# Altium schematic symbol library SEMATIK_LIB.SchLib: 632 symbols (part 12 of 21)
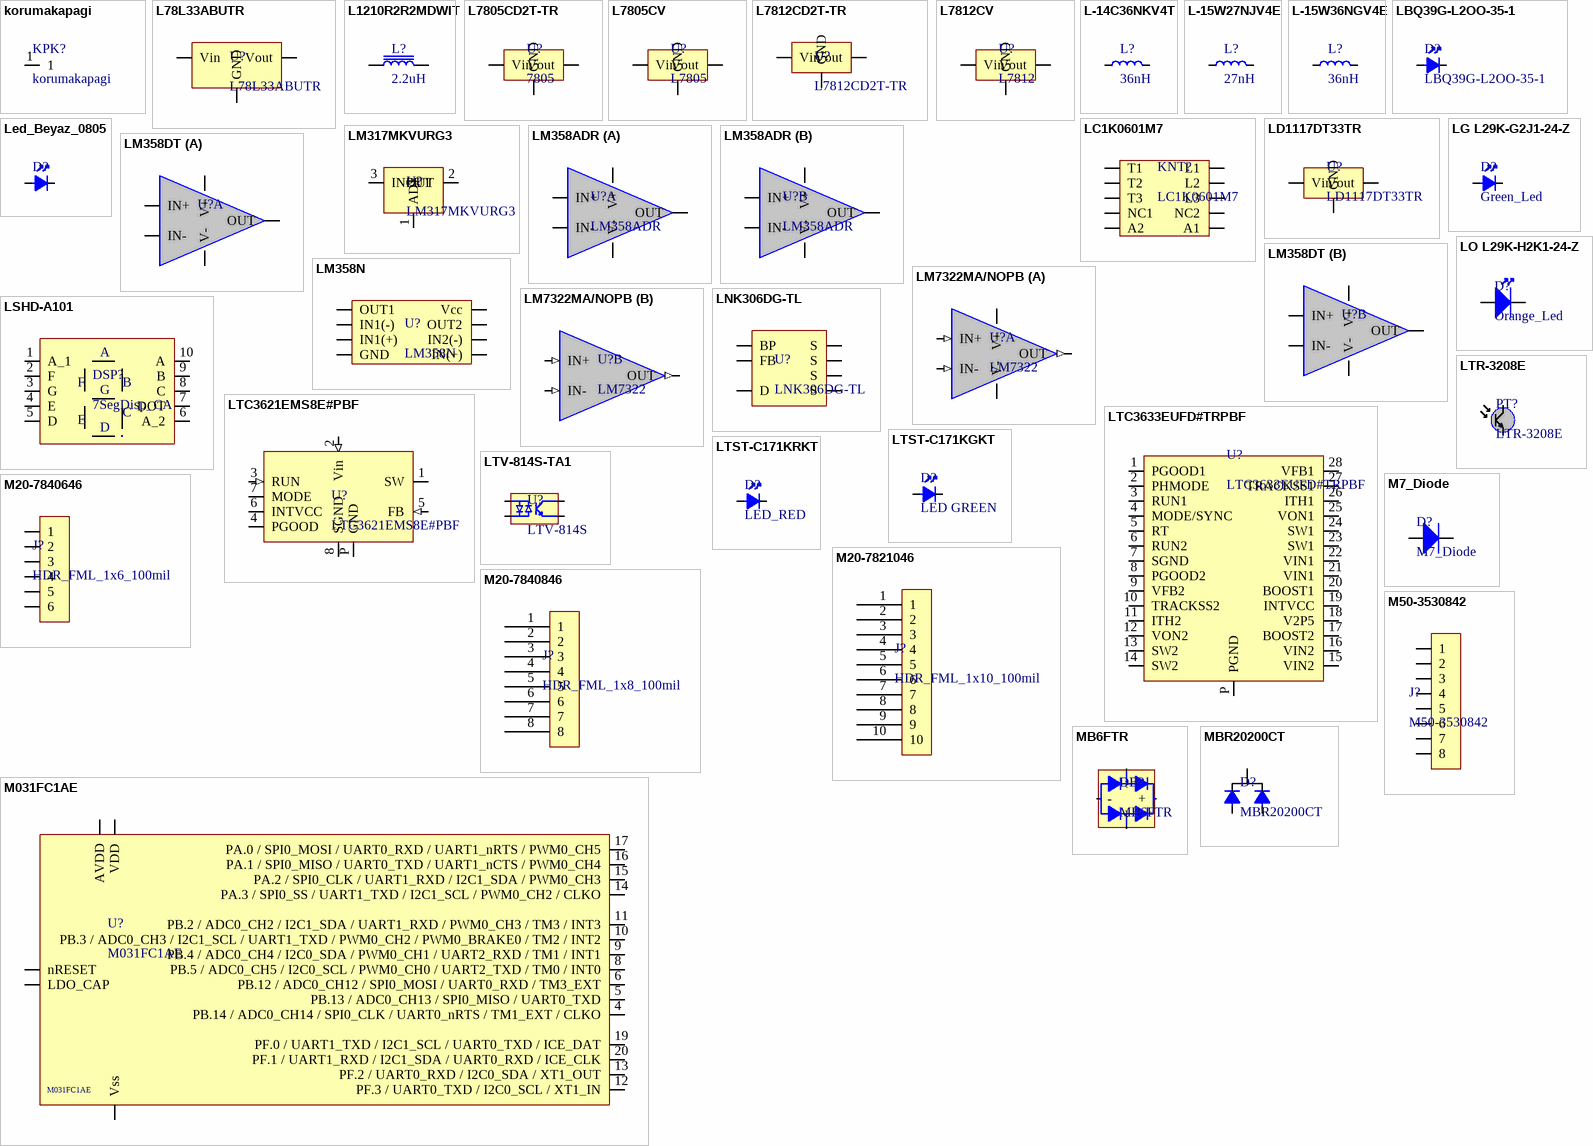
[diagram p27: symbols korumakapagi to MBR20200CT]

## MB6FTR
designator DB?
DIODE BRIDGE RECT 1P 600V 500MA Mbf; Manufacturer: SMC; Supplier 1: Digi-Key; Manufacturer Part Number: MB6FTR; Stock 1: 21477; Pricing 1: 1 = 0,28000, 10 = 0,22700, 100 = 0,09300, 500 = 0,07754, 1000 = 0,05388, 2000 = 0,05008 (USD); RoHS: No; Mount: Surface Mount; Case/Package: SMD/SMT; Min Operating Temperature: -55°C; Max Operating Temperature: 150°C; Packaging: Tape and Reel; Average Rectified Current: 500mA; ComponentLink1URL: http://www.smc-diodes.com/propdf/MB05F-MB10F%20N1456%20REV.B.pdf?src-supplier=Digi-Key; ComponentLink1Description: http://www.smc-diodes.com/propdf/MB05F-MB10F%20N1456%20REV.B.pdf?src-supplier=Digi-Key; Supplier Part Number 1: 1655-1818-1-ND
footprint DIODE_BRIDGE_MBF
pins: 1 ~, 2 ~, 3 +, 4 -

## MBR20200CT
designator D?
DIODE ARRAY SCHOTTKY 200V TO220; Manufacturer: SMC; Element Configuration: Common Cathode; Supplier 1: Digi-Key; Manufacturer Part Number: MBR20200CT; Stock 1: 3483; Pricing 1: 1 = 0,61000, 10 = 0,54000, 25 = 0,50680, 100 = 0,36790, 250 = 0,35480, 500 = 0,30740, 1000 = 0,26162, 2500 = 0,24526, 5000 = 0,22074 (USD); RoHS: No; Mount: Through Hole; Case/Package: TO-220-3; Packaging: Rail/Tube; Max Reverse Voltage (DC): 200V; ComponentLink1URL: http://www.smc-diodes.com/propdf/MBR20200CT(-1)%20MBRB20200CT%20N0763%20REV.A.pdf?src-supplier=Digi-Key; ComponentLink1Description: http://www.smc-diodes.com/propdf/MBR20200CT(-1)%20MBRB20200CT%20N0763%20REV.A.pdf?src-supplier=Digi-Key; Supplier Part Number 1: 1655-1042-ND
footprint TO-220AB
pins: 1 Anot, 2 Katot, 3 Anot

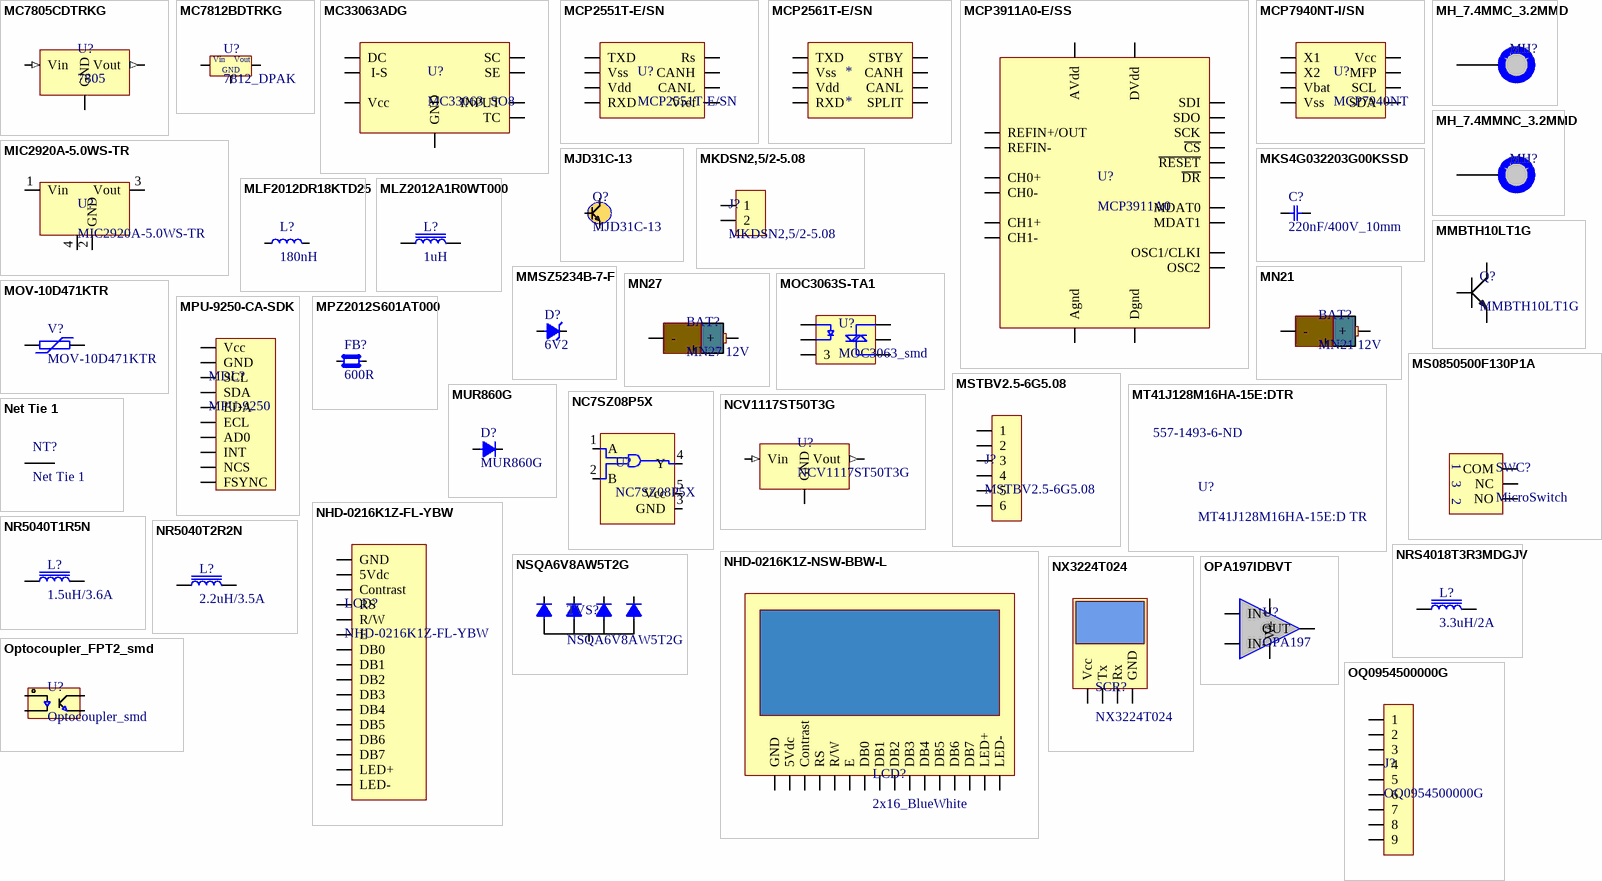
[diagram p9: symbols MC7805CDTRKG to OQ0954500000G]

## MC7805CDTRKG
designator U?, comment 7805
IC REG LINEAR 5V 1A DPAK; Manufacturer: ON Semiconductor; Manufacturer Part Number: MC7805CDTRKG; Power Supply Rejection Ratio (PSRR): 83dB; Output Type: Fixed; Number of Regulators: 1; Polarity: Positive; Quiescent Current: 3.2mA; Max Output Voltage: 5.2V; Max Input Voltage: 35V; Min Input Voltage: 10V; Dropout Voltage: 2V; Output Voltage Accuracy: 4%; Supplier 1: Digi-Key; Stock 1: 4862; Pricing 1: 1 = 0,53000, 10 = 0,45100, 25 = 0,42080, 100 = 0,31250, 250 = 0,26444, 500 = 0,25242, 1000 = 0,18631 (USD); RoHS: Yes; Mount: Surface Mount; Case/Package: DPAK; Number of Pins: 3; Contact Plating: Tin,Matte; Min Operating Temperature: 0°C; Max Operating Temperature: 125°C; Min Output Voltage: 5V; Output Current: 1A; Nominal Output Voltage: 5V; Packaging: Tape and Reel; Package Quantity: 1; Max Output Current: 1A; Number of Outputs: 1; Output Voltage: 5V; Accuracy: 4%; Length: 6.73mm; Width: 6.22mm; Height: 2.38mm; Radiation Hardening: No; REACH SVHC: No SVHC; Lead Free: Lead Free; Halogen Free: Halogen Free; ComponentLink1URL: https://datasheet.ciiva.com/1643/mc7800-d-1643648.pdf?src-supplier=Newark; ComponentLink1Description: https://datasheet.ciiva.com/1643/mc7800-d-1643648.pdf?src-supplier=Newark; ComponentLink2URL: https://datasheet.ciiva.com/2042/mc7800-d-2042320.pdf?src-supplier=Digi-Key; ComponentLink2Description: https://datasheet.ciiva.com/2042/mc7800-d-2042320.pdf?src-supplier=Digi-Key; ComponentLink3URL: https://datasheet.ciiva.com/2042/mc7800-d-2042318.pdf?src-supplier=Digi-Key; ComponentLink3Description: https://datasheet.ciiva.com/2042/mc7800-d-2042318.pdf?src-supplier=Digi-Key; ComponentLink4URL: https://datasheet.ciiva.com/8229/mc7800-d-8229966.pdf?src-supplier=Avnet; ComponentLink4Description: https://datasheet.ciiva.com/8229/mc7800-d-8229966.pdf?src-supplier=Avnet; ComponentLink5URL: https://datasheet.ciiva.com/8234/mc7800-d-8234046.pdf?src-supplier=Avnet; ComponentLink5Description: https://datasheet.ciiva.com/8234/mc7800-d-8234046.pdf?src-supplier=Avnet; ComponentLink6URL: https://datasheet.ciiva.com/2042/mc7800-d-2042319.pdf?src-supplier=Digi-Key; ComponentLink6Description: https://datasheet.ciiva.com/2042/mc7800-d-2042319.pdf?src-supplier=Digi-Key; Supplier Part Number 1: MC7805CDTRKGOSDKR-ND
footprint DPAK
pins: 1 Vin (in), 2 GND, 3 Vout (out)

## MC7812BDTRKG
designator U?, comment 7812_DPAK
IC REG LDO 12V 1A DPAK; Manufacturer: ON Semiconductor; Manufacturer Part Number: MC7812BDTRKG; Max Input Voltage: 35V; Min Input Voltage: 19V; Number of Outputs: 1; Dropout Voltage: 2V; Polarity: Positive; Quiescent Current: 8mA; Accuracy: 4%; Power Supply Rejection Ratio (PSRR): 60dB; Output Type: Fixed; Supplier 1: Digi-Key; Stock 1: 14964; Pricing 1: 1=0.71, 10=0.624, 100=0.4781, 500=0.37796, 1000=0.30237 (USD); Mount: Surface Mount; Case/Package: DPAK; Number of Pins: 3; Contact Plating: Matte,Tin; Min Operating Temperature: -40°C; Max Operating Temperature: 125°C; Output Voltage: 12V; Output Current: 1A; Packaging: Tape and Reel; Package Quantity: 1; Max Output Current: 1A; Nominal Output Voltage: 12V; Number of Regulators: 1; Min Output Voltage: 12V; Output Voltage Accuracy: 4%; Radiation Hardening: No; REACH SVHC: No SVHC; Lead Free: Lead Free; Halogen Free: Halogen Free; ComponentLink1URL: http://www.farnell.com/datasheets/1726421.pdf?src-supplier=Element14; ComponentLink1Description: http://www.farnell.com/datasheets/1726421.pdf?src-supplier=Element14; ComponentLink2URL: http://www.onsemi.com/pub/Collateral/MC7800-D.PDF?src-supplier=Digi-Key; ComponentLink2Description: http://www.onsemi.com/pub/Collateral/MC7800-D.PDF?src-supplier=Digi-Key; ComponentLink3URL: http://www.farnell.com/datasheets/87758.pdf?src-supplier=Element14; ComponentLink3Description: http://www.farnell.com/datasheets/87758.pdf?src-supplier=Element14; ComponentLink4URL: http://www.onsemi.com/pub/Collateral/MC7800-D.PDF?src-supplier=Avnet; ComponentLink4Description: http://www.onsemi.com/pub/Collateral/MC7800-D.PDF?src-supplier=Avnet; Supplier Part Number 1: MC7812BDTRKGOSDKR-ND
footprint DPAK
pins: 1 Vin, 2 GND, 3 Vout

## MC33063ADG
designator U?, comment MC33063_SO8
MC33063ADG; Buck/Boost Converter 1.5A; 1.25 - 40 V; 8-Pin SOIC; Manufacturer: ON Semiconductor; Supplier 1: Allied; Manufacturer Part Number: MC33063ADG; RoHS: No; Stock 1: 775; Pricing 1: 1=0.7000, 10=0.6700, 50=0.6400, 100=0.6000, 250=0.5700 (USD); ComponentLink1URL: https://www.alliedelec.com/m/d/601cbfd53bfed888ce69fc7cc840d423.pdf; ComponentLink1Description: https://www.alliedelec.com/m/d/601cbfd53bfed888ce69fc7cc840d423.pdf; ComponentLink2URL: https://www.alliedelec.com/on-semiconductor-mc33063adg/70339981/; ComponentLink2Description: https://www.alliedelec.com/on-semiconductor-mc33063adg/70339981/; Supplier Part Number 1: 70339981
footprint SOP8
pins: 1 SC, 2 SE, 3 TC, 4 GND, 5 INPUT, 6 Vcc, 7  I-S, 8 DC

## MCP2551T-E/SN
designator U?
IC TRANSCEIVER HALF 1/1 8SOIC; Manufacturer: Microchip; Data Rate: 1Mbps; Min Supply Voltage: 4.5V; Max Supply Voltage: 5.5V; Operating Supply Voltage: 5V; Nominal Supply Current: 75mA; Interface: CAN; Number of Transceivers: 1; Output Current: 200mA; Simplex/Duplex: Half Duplex; Receiver Hysteresis: 200mV; Supplier 1: Digi-Key; Manufacturer Part Number: MCP2551T-E/SN; RoHS: Yes; Category: Interface ICs; Stock 1: 71825; Pricing 1: 1=1,59000, 25=1,45520 (USD); Mount: Surface Mount; Case/Package: SOIC; Number of Pins: 8; Contact Plating: Tin,Matte; Min Operating Temperature: -40°C; Max Operating Temperature: 125°C; Packaging: Tape and Reel; Package Quantity: 3300; Max Supply Current: 75mA; Series: -; Supply Current: 75mA; Number of Functions: 1; Supply Voltage-Nom: 5.5V; Length: 4.9mm; Width: 3.9mm; Height: 1.5mm; Radiation Hardening: No; Lead Free: Lead Free; RoHS Compliant: Yes; ComponentLink1URL: https://datasheet.ciiva.com/1604/657417-1604797.pdf?src-supplier=Newark; ComponentLink1Description: https://datasheet.ciiva.com/1604/657417-1604797.pdf?src-supplier=Newark; ComponentLink2URL: https://datasheet.ciiva.com/16983/70048433-16983254.pdf?src-supplier=Allied+Electronics; ComponentLink2Description: https://datasheet.ciiva.com/16983/70048433-16983254.pdf?src-supplier=Allied+Electronics; ComponentLink3URL: https://datasheet.ciiva.com/16290/filehandler-aspxddocname-en011797-16290269.pdf?src-supplier=Future+Electronics; ComponentLink3Description: https://datasheet.ciiva.com/16290/filehandler-aspxddocname-en011797-16290269.pdf?src-supplier=Future+Electronics; ComponentLink4URL: https://datasheet.ciiva.com/1767/21667f-1767467.pdf?src-supplier=Digi-Key; ComponentLink4Description: https://datasheet.ciiva.com/1767/21667f-1767467.pdf?src-supplier=Digi-Key; ComponentLink5URL: https://datasheet.ciiva.com/29718/filehandler-aspxddocname-en011797-29718437.pdf?src-supplier=Digi-Key; ComponentLink5Description: https://datasheet.ciiva.com/29718/filehandler-aspxddocname-en011797-29718437.pdf?src-supplier=Digi-Key; ComponentLink6URL: https://datasheet.ciiva.com/29718/filehandler-aspxddocname-en011797-29718438.pdf?src-supplier=Digi-Key; ComponentLink6Description: https://datasheet.ciiva.com/29718/filehandler-aspxddocname-en011797-29718438.pdf?src-supplier=Digi-Key; Supplier Part Number 1: MCP2551T-E/SNDKR-ND
footprint SOP8
pins: 1 TXD, 2 Vss, 3 Vdd, 4 RXD, 5 Vref, 6 CANL, 7 CANH, 8 Rs

## MCP2561T-E/SN
designator *
MCP2561 Series 4.5 to 5.5 V Surface Mount High Speed CAN Transceiver - SOIC-8; Manufacturer: Microchip; Manufacturer Part Number: MCP2561T-E/SN; Data Rate: 1Mbps; Min Supply Voltage: 4.5V; Max Supply Voltage: 5.5V; Propagation Delay: 125ns; Nominal Supply Current: 45mA; Number of Transceivers: 1; Receiver Hysteresis: 200mV; Supplier 1: Digi-Key; RoHS: Yes; Category: Interface ICs; Mount: Surface Mount; Case/Package: SOIC; Number of Pins: 8; Min Operating Temperature: -40°C; Max Operating Temperature: 125°C; Packaging: Tape and Reel; Package Quantity: 3300; Turn-On Delay Time: 125ns; Radiation Hardening: No; Lead Free: Lead Free; RoHS Compliant: Yes; ComponentLink1URL: https://datasheet.ciiva.com/18624/25167b-18624822.pdf?src-supplier=Digi-Key; ComponentLink1Description: https://datasheet.ciiva.com/18624/25167b-18624822.pdf?src-supplier=Digi-Key; Supplier Part Number 1: MCP2561T-E/SN-ND
footprint SOP8
pins: 1 TXD, 2 Vss, 3 Vdd, 4 RXD, 5 SPLIT, 6 CANL, 7 CANH, 8 STBY

## MCP3911A0-E/SS
designator U?, comment MCP3911A0
IC AFE 2 CHAN 24BIT 20SSOP; Manufacturer: Microchip; Manufacturer Part Number: MCP3911A0-E/SS; Conversion Rate: 125ksps; Data Rate: 125kbps; Interface: SPI, Serial; Max Power Dissipation: 8.9mW; Max Supply Voltage: 3.6V; Min Supply Voltage: 2.7V; Number of A/D Converters: 2; Number of Bits: 24; Operating Supply Current: 4.4mA; Operating Supply Voltage: 3.3V; Reference Voltage: 1.2V; Resolution: 3B; Signal to Noise Ratio (SNR): 95dB; Supplier: Farnell; Supplier Part Number: 2113275; RoHS: Compliant; Category: Analog Front End (AFE); Stock: 260; Pricing: 1=2,4, 25=1,99, 100=1,8, 250=1,76 (EUR); Projected EOL Date: 2039-12-22; Case/Package: SSOP; Contact Plating: Tin; Country of Assembly: Philippines, Thailand; Country of Fabrication: United States of America; Country of Origin: Philippines, Thailand; Export Control Classification Number (ECCN) Code: EAR99; Height: 1.85mm; Harmonized Tariff Schedule (HTS) Code: 8542.33.0001; Introduction Date: 2011-12-22; Lead Free: Lead Free; Length: 7.5mm; Lifecycle Status: Production; Max Operating Temperature: 125°C; Min Operating Temperature: -40°C; Number of Channels: 2; Number of Converters: 2; Pins: 20; Packaging: Rail/Tube; Radiation Hardening: No; REACH SVHC: No; Sampling Rate: 125ksps; Schedule B: 8542330000, 8542330000|8542330000, 8542330000|8542330000|8542330000, 8542330000|8542330000|8542330000|8542330000; Type: General Purpose; Width: 5.6mm; ComponentLink1URL: https://datasheet.octopart.com:443/MCP3911A0-E-SS-Microchip-datasheet-38883559.pdf?src-supplier=SHENGYU+ELECTRONICS; ComponentLink1Description: https://datasheet.octopart.com:443/MCP3911A0-E-SS-Microchip-datasheet-38883559.pdf?src-supplier=SHENGYU+ELECTRONICS; ComponentLink2URL: https://datasheet.octopart.com:443/MCP3911A0-E/SS-Microchip-datasheet-11053292.pdf?src-supplier=LKR; ComponentLink2Description: https://datasheet.octopart.com:443/MCP3911A0-E/SS-Microchip-datasheet-11053292.pdf?src-supplier=LKR; ComponentLink3URL: https://datasheet.octopart.com:443/MCP3911A0-E-SS-Microchip-datasheet-147334620.pdf?src-supplier=Microchip; ComponentLink3Description: https://datasheet.octopart.com:443/MCP3911A0-E-SS-Microchip-datasheet-147334620.pdf?src-supplier=Microchip; ComponentLink4URL: http://sigma.octopart.com:80/188450172/materials_sheet/Microchip-MCP3911A0-E-SS.pdf?src-supplier=Compliance+Statements; ComponentLink4Description: http://sigma.octopart.com:80/188450172/materials_sheet/Microchip-MCP3911A0-E-SS.pdf?src-supplier=Compliance+Statements; ComponentLink5URL: http://sigma.octopart.com:80/conflict_mineral_statement/Microchip-company-68.pdf?src-supplier=Compliance+Statements; ComponentLink5Description: http://sigma.octopart.com:80/conflict_mineral_statement/Microchip-company-68.pdf?src-supplier=Compliance+Statements; ComponentLink6URL: http://sigma.octopart.com:80/conflict_mineral_statement/Microchip-company-69.pdf?src-supplier=Compliance+Statements; ComponentLink6Description: http://sigma.octopart.com:80/conflict_mineral_statement/Microchip-company-69.pdf?src-supplier=Compliance+Statements; ComponentLink7URL: http://sigma.octopart.com:80/reach_statement/Microchip-company-70.pdf?src-supplier=Compliance+Statements; ComponentLink7Description: http://sigma.octopart.com:80/reach_statement/Microchip-company-70.pdf?src-supplier=Compliance+Statements; ComponentLink8URL: http://sigma.octopart.com:80/rohs_statement/Microchip-company-71.pdf?src-supplier=Compliance+Statements; ComponentLink8Description: http://sigma.octopart.com:80/rohs_statement/Microchip-company-71.pdf?src-supplier=Compliance+Statements
footprint SSOP20
pins: 1 ~{RESET}, 2 DVdd, 3 AVdd, 4 CH0+, 5 CH0-, 6 CH1-, 7 CH1+, 8 Agnd, 9 REFIN+/OUT, 10 REFIN-, 11 Dgnd, 12 MDAT1, 13 MDAT0, 14 ~{DR}, 15 OSC1/CLKI, 16 OSC2, 17 ~{CS}, 18 SCK, 19 SDO, 20 SDI

## MCP7940NT-I/SN
designator U?, comment MCP7940NT
IC RTC CLK/CALENDAR I2C 8-SOIC; Manufacturer: Microchip; Manufacturer Part Number: MCP7940NT-I/SN; Max Supply Voltage: 5.5V; Min Supply Voltage: 1.8V; Memory Size: 64B; Interface: I2C,Serial,2-Wire; Logic Function: Clock; Time Format: HH:MM:SS; Date Format: YY-MM-DD-dd; Supplier 1: Digi-Key; Stock 1: 8006; Pricing 1: 1 = 0,74000, 25 = 0,68000, 100 = 0,65000 (USD); RoHS: Yes; Mount: Surface Mount; Case/Package: SOIC; Number of Pins: 8; Min Operating Temperature: -40°C; Max Operating Temperature: 85°C; Packaging: Tape and Reel; Package Quantity: 3300; Radiation Hardening: No; ComponentLink1URL: https://datasheet.ciiva.com/1241/25010e-1241400.pdf?src-supplier=Digi-Key; ComponentLink1Description: https://datasheet.ciiva.com/1241/25010e-1241400.pdf?src-supplier=Digi-Key; ComponentLink2URL: https://datasheet.ciiva.com/8145/25010a-8145519.pdf?src-supplier=Avnet; ComponentLink2Description: https://datasheet.ciiva.com/8145/25010a-8145519.pdf?src-supplier=Avnet; Supplier Part Number 1: MCP7940NT-I/SNCT-ND
footprint SOP8
pins: 1 X1, 2 X2, 3 Vbat, 4 Vss, 5 SDA, 6 SCL, 7 MFP, 8 Vcc

## MH_7.4MMC_3.2MMD
designator MH?  (value not drawn)  (no BOM)
Mounting Hole 7.4mm Diameter, 3.2mm Drill
footprint MH_7.4MMC_3.2MMD
pins: 1

## MH_7.4MMNC_3.2MMD
designator MH?, comment MH_7.4NC_3.2MMD  (value not drawn)  (no BOM)
Mounting Hole 7.4 Diameter(Non copper)  3.2 Drill NPTH
footprint MH_7.4MMNC_3.2MMD
pins: 1

## MIC2920A-5.0WS-TR
designator U?
IC REG LINEAR 5V 400MA SOT223; Manufacturer: Microchip Technology; Output Configuration: Positive; Output Type: Fixed; Voltage - Input (Max): 26V; Voltage Dropout (Max): 0.75V @ 400mA; Protection Features: Load Dump, Over Current, Reverse Polarity; Supplier 1: Digi-Key; Manufacturer Part Number: MIC2920A-5.0WS-TR; RoHS: RoHS Compliant; Category: Integrated Circuits (ICs); Stock 1: 5486; Pricing 1: 1=1.36, 25=1.1332, 100=1.03 (USD); Packaging: Cut Tape (CT); Part Status: Active; Voltage - Output (Min/Fixed): 5V; Voltage - Output (Max): -; Current - Output: 400mA; PSRR: -; Control Features: -; Operating Temperature: -40°C ~ 125°C; Mounting Type: Surface Mount; Package / Case: TO-261-4, TO-261AA; Supplier Device Package: SOT-223; Base Part Number: MIC2920A-5.0; ComponentLink1URL: http://www.microchip.com/mymicrochip/filehandler.aspx?ddocname=en580793; ComponentLink1Description: http://www.microchip.com/mymicrochip/filehandler.aspx?ddocname=en580793; Supplier Part Number 1: 576-1117-1-ND
footprint SOT-223
pins: 1 Vin, 2 GND, 3 Vout, 4

## MJD31C-13
designator Q?
TRANS NPN 100V 3A DPAK; Manufacturer: Diodes Zetex; Transition Frequency: 3MHz; Emitter Base Voltage (VEBO): 6V; Collector Emitter Saturation Voltage: 1.2V; Number of Elements: 1; Power Dissipation: 1.5W; Max Power Dissipation: 1.56W; Element Configuration: Single; hFE Min: 25; Supplier 1: Digi-Key; Manufacturer Part Number: MJD31C-13; Stock 1: 14695; Pricing 1: 1 = 0,47000, 10 = 0,40100, 25 = 0,37400, 100 = 0,27790, 500 = 0,21700, 1000 = 0,17639 (USD); RoHS: Yes; Mount: Surface Mount; Case/Package: DPAK; Number of Pins: 3; Weight: 0.012346oz; Min Operating Temperature: -55°C; Max Operating Temperature: 150°C; Max Collector Current: 3A; Collector Emitter Breakdown Voltage: 100V; Max Breakdown Voltage: 100V; Polarity: NPN; Collector Base Voltage (VCBO): 100V; Continuous Collector Current: 3A; Package Quantity: 2500; Packaging: Tape and Reel; Collector Emitter Voltage (VCEO): 100V; Frequency: 3MHz; Gain Bandwidth Product: 3MHz; Max Frequency: 3MHz; Length: 6.8mm; Width: 6.2mm; Height: 2.4mm; Radiation Hardening: No; REACH SVHC: No SVHC; Lead Free: Lead Free; ComponentLink1URL: https://datasheet.ciiva.com/6360/ds31625-6360177.pdf?src-supplier=Digi-Key; ComponentLink1Description: https://datasheet.ciiva.com/6360/ds31625-6360177.pdf?src-supplier=Digi-Key; ComponentLink2URL: https://datasheet.ciiva.com/16462/ds31625-16462219.pdf?src-supplier=Future+Electronics; ComponentLink2Description: https://datasheet.ciiva.com/16462/ds31625-16462219.pdf?src-supplier=Future+Electronics; ComponentLink3URL: https://datasheet.ciiva.com/16285/ds31625-16285775.pdf?src-supplier=Mouser; ComponentLink3Description: https://datasheet.ciiva.com/16285/ds31625-16285775.pdf?src-supplier=Mouser; Supplier Part Number 1: MJD31C-13DICT-ND
footprint DPAK
pins: 1 Base, 2 Collector, 3 Emiter

## MKDSN2,5/2-5.08
designator J?
TERM BLOCK 2 POS 5.08MM SOLDER ST THRU-HOLDER; Manufacturer 1: Phoenix Contact; Max Current Rating: 16A; Max Supply Voltage: 250V; Number of Poles: 2; Voltage Rating: 400V; Number of Levels: 1; Current: 10A; Voltage: 300V; Gender: Male; Connector Type: Screw; Wire Gauge (Max): 30AWG; Wire Gauge (Min): 12AWG; Approvals: UL,VDE,cULus,CB; Supplier 1: Digi-Key; Manufacturer Part Number 1: MKDSN2,5/2-5.08; Stock 1: 2023; Pricing 1: 1=1.15, 10=1.099, 50=1.051, 100=1.0224, 250=0.95552, 500=0.87906, 1000=0.81218, 2500=0.77396, 5000=0.72618 (USD); Mount: Through Hole; Number of Pins: 2; Weight: 0.114993oz; Color: Green; Material: Polyamide; Housing Color: Green; Housing Material: Polyamide; Contact Material: Tin; Number of Rows: 1; Packaging: Bulk; Package Quantity: 50; Current Rating: 16A; Number of Positions Per Level: 2; Termination: Screw; Number of Positions: 2; Number of Contacts: 2; Number of Circuits: 2; Orientation: Straight; Length: 11.6mm; Height: 10.16mm; Width: 9.5mm; Pitch: 5.08mm; Depth: 9.5mm; Lead Free: Lead Free; Flammability Rating: UL94 V-0; ComponentLink1URL: http://www.farnell.com/datasheets/2325421.pdf?src-supplier=Farnell; ComponentLink1Description: http://www.farnell.com/datasheets/2325421.pdf?src-supplier=Farnell; ComponentLink2URL: https://media.digikey.com/PDF/Data%20Sheets/Phoenix%20Contact%20PDFs/1888687.pdf?src-supplier=Digi-Key; ComponentLink2Description: https://media.digikey.com/PDF/Data%20Sheets/Phoenix%20Contact%20PDFs/1888687.pdf?src-supplier=Digi-Key; ComponentLink3URL: https://produktinfo.conrad.com/datenblaetter/750000-774999/774087-da-01-en-PRINTKLEMME_1888687_250_ST.pdf?src-supplier=Conrad; ComponentLink3Description: https://produktinfo.conrad.com/datenblaetter/750000-774999/774087-da-01-en-PRINTKLEMME_1888687_250_ST.pdf?src-supplier=Conrad; Supplier Part Number 1: 277-5893-ND
footprint SOCKET_5.08_1X2_PCB_NO2
pins: 1, 2

## MKS4G032203G00KSSD
designator C?, comment 220nF/400V_10mm
CAP FILM nF 220 200Vac 10% 10mm; Manufacturer: WIMA; Manufacturer Part Number: MKS4G032203G00KSSD; Capacitance: 220nF; Dielectric: PET; Lead Diameter: 0.6mm; Supplier 1: Digi-Key; Stock 1: 207; Pricing 1: 1=0.57, 10=0.406, 100=0.2672, 500=0.19792, 1000=0.16823, 2500=0.15834, 5000=0.14844 (USD); Case/Package: Radial; Min Operating Temperature: -55°C; Max Operating Temperature: 100°C; Tolerance: 10%; Packaging: Bulk; Length: 13mm; Depth: 6mm; Lead Pitch: 10mm; Supplier Part Number 1: 1928-1719-ND
footprint Radial_10mm_7.2x3.5mm
pins: 1, 2

## MLF2012DR18KTD25
designator L?, comment 180nH
FIXED IND nH 180 300MA 250MOHM SM; Manufacturer: TDK; Manufacturer Part Number: MLF2012DR18KTD25; Core Material: Ferrite; Tolerance: 10%; Shielding: Shielded; DC Resistance (DCR): 250mR; Self Resonant Frequency: 280MHz; Test Frequency: 25MHz; Q Factor: 20; Supplier 1: Digi-Key; RoHS: Yes; Category: Fixed Inductors; Stock 1: 4804; Pricing 1: 1=0,27000, 10=0,24300, 25=0,21240, 50=0,18220, 100=0,16700, 250=0,15180, 500=0,14270, 1000=0,10930 (USD); Mount: Surface Mount; Case/Package: 0805; Case Code (Metric): 2012; Case Code (Imperial): 0805; Weight: 0.000194oz; Min Operating Temperature: -55°C; Max Operating Temperature: 125°C; Package Quantity: 4000; Packaging: Tape and Reel; Current Rating: 300mA; Inductance: 180nH; Termination: SMD/SMT; Max DC Current: 300mA; Length: 0.079inch; Width: 0.049inch; Height: 0.85mm; Height - Seated (Max): 0.041inch; Ratings: AEC-Q200; RoHS Compliant: Yes; ComponentLink1URL: http://www.mouser.com/ds/2/400/nductor_commercial_standard_mlf2012_en-936986.pdf?src-supplier=Mouser; ComponentLink1Description: http://www.mouser.com/ds/2/400/nductor_commercial_standard_mlf2012_en-936986.pdf?src-supplier=Mouser; ComponentLink2URL: http://product.tdk.com/inductor/ind/en/documents/inductor_automotive_standard_mlf_en.pdf?src-supplier=Digi-Key; ComponentLink2Description: http://product.tdk.com/inductor/ind/en/documents/inductor_automotive_standard_mlf_en.pdf?src-supplier=Digi-Key; ComponentLink3URL: https://product.tdk.com/info/en/catalog/datasheets/inductor_automotive_standard_mlf2012_en.pdf?src-supplier=Digi-Key; ComponentLink3Description: https://product.tdk.com/info/en/catalog/datasheets/inductor_automotive_standard_mlf2012_en.pdf?src-supplier=Digi-Key; Supplier Part Number 1: 445-16992-1-ND
footprint FERRITEBEAD_0805
pins: 1, 2

## MLZ2012A1R0WT000
designator L?, comment 1uH
FIXED IND uH 1 900MA 100 MOHM 0805 SMD; Manufacturer: TDK; Manufacturer Part Number: MLZ2012A1R0WT000; Core Material: Ferrite; Tolerance: 20%; Saturation Current: 280mA; Shielding: Shielded; DC Resistance (DCR): 130mR; Self Resonant Frequency: 160MHz; Test Frequency: 10MHz; Supplier 1: Digi-Key; Stock 1: 9153; Pricing 1: 1 = 0,13000, 10 = 0,11300, 25 = 0,10000, 50 = 0,08500, 100 = 0,07500, 250 = 0,06876, 500 = 0,06250, 1000 = 0,05250 (USD); RoHS: Yes; Mount: Surface Mount; Case/Package: 0805; Case Code (Imperial): 0805; Case Code (Metric): 2012; Min Operating Temperature: -55°C; Max Operating Temperature: 125°C; Package Quantity: 1; Packaging: Cut Tape; Current Rating: 900mA; Inductance: 1uH; Length: 0.079inch; Width: 0.049inch; Height - Seated (Max): 0.041inch; ComponentLink1URL: https://datasheet.ciiva.com/29698/inductor-commercial-decoupling-mlz-en-29698927.pdf?src-supplier=Digi-Key; ComponentLink1Description: https://datasheet.ciiva.com/29698/inductor-commercial-decoupling-mlz-en-29698927.pdf?src-supplier=Digi-Key; Supplier Part Number 1: 445-6391-1-ND
footprint Cap_0805
pins: 1, 2

## MMBTH10LT1G
designator Q?
RF TRANS NPN 25V 650MHZ SOT23-3; Manufacturer: ON Semiconductor; Max Power Dissipation: 225mW; Collector Base Voltage (VCBO): 30V; Emitter Base Voltage (VEBO): 3V; Collector Emitter Saturation Voltage: 500mV; Max Collector Current: 100nA; Element Configuration: Single; hFE Min: 60; Number of Elements: 1; Power Dissipation: 300mW; Current Rating: 4mA; Supplier 1: Digi-Key; Manufacturer Part Number: MMBTH10LT1G; Stock 1: 3413; Pricing 1: 1 = 0,22000, 10 = 0,18000, 25 = 0,15040, 100 = 0,09520, 250 = 0,07348, 500 = 0,06262, 1000 = 0,04259 (USD); RoHS: Yes; Case/Package: SOT-23-3; Number of Pins: 3; Weight: 0.01lb; Contact Plating: Tin,Matte; Min Operating Temperature: -55°C; Max Operating Temperature: 150°C; Package Quantity: 1; Packaging: Tape and Reel; Collector Emitter Voltage (VCEO): 25V; Transition Frequency: 650MHz; Polarity: NPN; Collector Emitter Breakdown Voltage: 25V; Max Frequency: 650MHz; Frequency: 650MHz; Max Breakdown Voltage: 25V; Termination: SMD/SMT; Gain Bandwidth Product: 650MHz; Voltage Rating (DC): 25V; Length: 3.04mm; Width: 1.4mm; Height: 1.01mm; Radiation Hardening: No; Lead Free: Lead Free; Halogen Free: Halogen Free; REACH SVHC: No SVHC; ComponentLink1URL: https://datasheet.ciiva.com/965/mmbth10lt1-d-965280.pdf?src-supplier=Digi-Key; ComponentLink1Description: https://datasheet.ciiva.com/965/mmbth10lt1-d-965280.pdf?src-supplier=Digi-Key; ComponentLink2URL: https://datasheet.ciiva.com/11197/mmbth10lt1-d-11197425.pdf?src-supplier=Avnet; ComponentLink2Description: https://datasheet.ciiva.com/11197/mmbth10lt1-d-11197425.pdf?src-supplier=Avnet; ComponentLink3URL: https://datasheet.ciiva.com/4722/mmbth10lt1-d-111412-4722870.pdf?src-supplier=Mouser; ComponentLink3Description: https://datasheet.ciiva.com/4722/mmbth10lt1-d-111412-4722870.pdf?src-supplier=Mouser; ComponentLink4URL: https://datasheet.ciiva.com/15138/getdatasheetpartid-38929-15138652.pdf?src-supplier=Verical; ComponentLink4Description: https://datasheet.ciiva.com/15138/getdatasheetpartid-38929-15138652.pdf?src-supplier=Verical; ComponentLink5URL: https://datasheet.ciiva.com/30480/0900766b81276aea-30480447.pdf?src-supplier=RSComponents; ComponentLink5Description: https://datasheet.ciiva.com/30480/0900766b81276aea-30480447.pdf?src-supplier=RSComponents; ComponentLink6URL: https://datasheet.ciiva.com/7972/mmbth10lt1-d-7972071.pdf?src-supplier=Element14; ComponentLink6Description: https://datasheet.ciiva.com/7972/mmbth10lt1-d-7972071.pdf?src-supplier=Element14; ComponentLink7URL: https://datasheet.ciiva.com/16478/mmbth10lt1-d-16478584.pdf?src-supplier=Avnet+Asia; ComponentLink7Description: https://datasheet.ciiva.com/16478/mmbth10lt1-d-16478584.pdf?src-supplier=Avnet+Asia; ComponentLink8URL: https://datasheet.ciiva.com/22696/1747968-22696698.pdf?src-supplier=Element14; ComponentLink8Description: https://datasheet.ciiva.com/22696/1747968-22696698.pdf?src-supplier=Element14; ComponentLink9URL: https://datasheet.ciiva.com/6366/mmbth10lt1-d-6366252.pdf?src-supplier=Digi-Key; ComponentLink9Description: https://datasheet.ciiva.com/6366/mmbth10lt1-d-6366252.pdf?src-supplier=Digi-Key; ComponentLink10URL: https://datasheet.ciiva.com/6366/mmbth10lt1-d-6366253.pdf?src-supplier=Digi-Key; ComponentLink10Description: https://datasheet.ciiva.com/6366/mmbth10lt1-d-6366253.pdf?src-supplier=Digi-Key; ComponentLink11URL: https://datasheet.ciiva.com/11198/mmbth10lt1-d-11198637.pdf?src-supplier=Avnet; ComponentLink11Description: https://datasheet.ciiva.com/11198/mmbth10lt1-d-11198637.pdf?src-supplier=Avnet; ComponentLink12URL: https://datasheet.ciiva.com/16205/mmbth10lt1-d-16205885.pdf?src-supplier=Future+Electronics; ComponentLink12Description: https://datasheet.ciiva.com/16205/mmbth10lt1-d-16205885.pdf?src-supplier=Future+Electronics; ComponentLink13URL: https://datasheet.ciiva.com/26114/mmbth10lt1-d-26114847.pdf?src-supplier=Avnet+Europe; ComponentLink13Description: https://datasheet.ciiva.com/26114/mmbth10lt1-d-26114847.pdf?src-supplier=Avnet+Europe; Supplier Part Number 1: MMBTH10LT1GOSCT-ND
footprint SOT-23
pins: 1 Collector, 2 Base, 3 Emiter

## MMSZ5234B-7-F
designator D?, comment 6V2
DIODE ZENER 6.2V 500MW SOD123; Manufacturer: Diodes; Manufacturer Part Number: MMSZ5234B-7-F; Voltage Tolerance: 5%; ESD Protection: No; Zener Current: 5uA; Impedance: 7R; Test Current: 20mA; Element Configuration: Single; Forward Voltage: 900mV; Supplier 1: Digi-Key; RoHS: Yes; Category: Zener Diodes; Stock 1: 368513; Pricing 1: 1=0,20000, 10=0,13600, 100=0,06820, 500=0,04166, 1000=0,03030 (USD); Mount: Surface Mount; Case/Package: SOD-123-2; Number of Pins: 2; Weight: 0.000353oz; Contact Plating: Tin,Matte; Min Operating Temperature: -65°C; Max Operating Temperature: 150°C; Termination: SMD/SMT; Power Rating: 500mW; Voltage Rating (DC): 6.2V; Zener Voltage: 6.2V; Max Reverse Current: 5uA; Max Reverse Leakage Current: 5uA; Power Dissipation: 500mW; Working Voltage: 6.2V; Max Power Dissipation: 500mW; Package Quantity: 3000; Packaging: Tape and Reel; Tolerance: 5%; Length: 3.85mm; Width: 1.7mm; Height: 1.35mm; Radiation Hardening: No; Lead Free: Lead Free; ComponentLink1URL: https://datasheet.ciiva.com/27052/1541132-27052413.pdf?src-supplier=Jameco; ComponentLink1Description: https://datasheet.ciiva.com/27052/1541132-27052413.pdf?src-supplier=Jameco; ComponentLink2URL: https://datasheet.ciiva.com/15142/getdatasheetpartid-61110-15142283.pdf?src-supplier=Verical; ComponentLink2Description: https://datasheet.ciiva.com/15142/getdatasheetpartid-61110-15142283.pdf?src-supplier=Verical; ComponentLink3URL: https://datasheet.ciiva.com/890/ds18010-890520.pdf?src-supplier=Digi-Key; ComponentLink3Description: https://datasheet.ciiva.com/890/ds18010-890520.pdf?src-supplier=Digi-Key; ComponentLink4URL: https://datasheet.ciiva.com/890/ds18010-890521.pdf?src-supplier=Digi-Key; ComponentLink4Description: https://datasheet.ciiva.com/890/ds18010-890521.pdf?src-supplier=Digi-Key; ComponentLink5URL: https://datasheet.ciiva.com/890/ds18010-890522.pdf?src-supplier=Digi-Key; ComponentLink5Description: https://datasheet.ciiva.com/890/ds18010-890522.pdf?src-supplier=Digi-Key; Supplier Part Number 1: MMSZ5234B-FDICT-ND
footprint SOD123
pins: A Anot, C Cathode

## MN21
designator BAT?, comment MN21 12V
BATTERY 12V 23A ALKALINE; Manufacturer: Duracell; Capacity: 33mAh; Outside Diameter: 10mm; Supplier 1: Farnell; Manufacturer Part Number: MN21; Stock 1: 1741; Pricing 1: 1 = 6,34000, 25 = 3,17000, 50 = 2,87000, 250 = 2,57000, 500 = 2,52000 (EUR); RoHS: Yes; Mount: External; Weight: 7.4g; Termination: Flat; Output Voltage: 12V; Chemistry/Technology: Alkaline; Height: 28.5mm; REACH SVHC: No SVHC; ComponentLink1URL: https://datasheet.ciiva.com/1387/100244-1387158.pdf?src-supplier=Element14; ComponentLink1Description: https://datasheet.ciiva.com/1387/100244-1387158.pdf?src-supplier=Element14; ComponentLink2URL: https://datasheet.ciiva.com/3353/06925499-3353558.pdf?src-supplier=Distrelec; ComponentLink2Description: https://datasheet.ciiva.com/3353/06925499-3353558.pdf?src-supplier=Distrelec; Supplier Part Number 1: 1892795
footprint BATTERY_23A_12V
pins: 1 +, 2 -, 3 NC

## MN27
designator BAT?, comment MN27 12V
BATTERY 12V 27A ALKALINE; Manufacturer: Duracell; Manufacturer Part Number: MN21; Capacity: 33mAh; Outside Diameter: 10mm; Supplier 1: Farnell; Stock 1: 1741; Pricing 1: 1 = 6,34000, 25 = 3,17000, 50 = 2,87000, 250 = 2,57000, 500 = 2,52000 (EUR); RoHS: Yes; Mount: External; Weight: 7.4g; Termination: Flat; Output Voltage: 12V; Chemistry/Technology: Alkaline; Height: 28.5mm; REACH SVHC: No SVHC; ComponentLink1URL: https://datasheet.ciiva.com/1387/100244-1387158.pdf?src-supplier=Element14; ComponentLink1Description: https://datasheet.ciiva.com/1387/100244-1387158.pdf?src-supplier=Element14; ComponentLink2URL: https://datasheet.ciiva.com/3353/06925499-3353558.pdf?src-supplier=Distrelec; ComponentLink2Description: https://datasheet.ciiva.com/3353/06925499-3353558.pdf?src-supplier=Distrelec; Supplier Part Number 1: 1892795
footprint BATTERY_27A_12V
pins: 1 +, 2 -, 3 NC

## MOC3063S-TA1
designator U?, comment MOC3063_smd
OPTOISOLATOR 5KV TRIAC 6SMD; Manufacturer: Vishay Lite-On; Manufacturer Part Number: MOC3063S-TA1; Nominal Input Voltage: 1.2V; Max Input Voltage: 1.4V; Forward Current: 50mA; Number of Channels: 1; Reverse Breakdown Voltage: 6V; Max Power Dissipation: 250mW; Turn-On Delay Time: 20us; Max Output Voltage: 600V; Hold Current: 400uA; Approvals: CSA,FIMKO,UL; Supplier 1: Digi-Key; Stock 1: 190610; Pricing 1: 1=0.72, 10=0.562, 25=0.4656, 100=0.4015, 250=0.35332, 500=0.30514 (USD); Mount: Surface Mount; Case/Package: SMD/SMT; Number of Pins: 6; Min Operating Temperature: -40°C; Max Operating Temperature: 100°C; Packaging: Tape and Reel; Forward Voltage: 1.2V; Number of Elements: 1; Power Dissipation: 250mW; Isolation Voltage: 5kV; Max Input Current: 50mA; Number of Circuits: 1; Output Voltage: 600V; Radiation Hardening: No; Lead Free: Lead Free; ComponentLink1URL: http://optoelectronics.liteon.com/upload/download/DS70-2001-026/MOC306X%20series%20201606.pdf?src-supplier=Digi-Key; ComponentLink1Description: http://optoelectronics.liteon.com/upload/download/DS70-2001-026/MOC306X%20series%20201606.pdf?src-supplier=Digi-Key; ComponentLink2URL: http://www1.futureelectronics.com/doc/LITE-ON/MOC3063S-TA1.pdf?src-supplier=Future+Electronics; ComponentLink2Description: http://www1.futureelectronics.com/doc/LITE-ON/MOC3063S-TA1.pdf?src-supplier=Future+Electronics; ComponentLink3URL: http://uk.rs-online.com/webdocs/0de6/0900766b80de6dee.pdf?src-supplier=RSComponents; ComponentLink3Description: http://uk.rs-online.com/webdocs/0de6/0900766b80de6dee.pdf?src-supplier=RSComponents; Supplier Part Number 1: 160-1723-1-ND
footprint MOC3063_SMD
pins: 1, 2, 3, 4, 5, 6

## MOV-10D471KTR
designator V?
VARISTOR 470V 2.5KA DISC 10MM; Manufacturer: Bourns Inc.; Energy: 70J; Dielectric Material: PP; Capacitance: 100nF; Voltage Rating (AC): 400V; Voltage Rating (DC): 630V; Tolerance: 5%; Supplier 1: Digi-Key; Manufacturer Part Number: MOV-10D471KTR; RoHS: RoHS Compliant; Category: Circuit Protection; Stock 1: 18333; Pricing 1: 1=0.56, 10=0.393, 25=0.3228, 100=0.2583, 250=0.18788 (USD); Packaging: Cut Tape (CT); Part Status: Active; Operating Temperature: -40°C ~ 105°C (TA); Mounting Type: Through Hole; Package / Case: Disc 10mm; ComponentLink1URL: https://www.bourns.com/docs/Product-Datasheets/MOV10D.pdf; ComponentLink1Description: https://www.bourns.com/docs/Product-Datasheets/MOV10D.pdf; Supplier Part Number 1: MOV-10D471KTRCT-ND; Mount: Through Hole; Case/Package: Radial; Min Operating Temperature: -55°C; Max Operating Temperature: 100°C; Termination: PC Pins; Length: 0.709inch; Width: 0.335inch; Height - Seated (Max): 0.571inch; Lead Pitch: 0.591inch
footprint 10D201K_Varistor
pins: 1, 2

## MPU-9250-CA-SDK
designator MDL?, comment MPU-9250
KIT DEV MPU-9250 9-AXIS; Manufacturer: TDK InvenSense; Manufacturer Part Number: MPU-9250-CA-SDK; Evaluation Kit: Yes; Interface: I2C,SPI; Sensor Type: Accelerometer,Gyroscope,Magnetometer,Temperature; Supplier 1: Digi-Key; RoHS: Yes; Category: Embedded Processors and Controllers; Package Quantity: 1; ComponentLink1URL: https://store.invensense.com/datasheets/invensense/MPU-9250CA-SDK.pdf?src-supplier=Digi-Key; ComponentLink1Description: https://store.invensense.com/datasheets/invensense/MPU-9250CA-SDK.pdf?src-supplier=Digi-Key; Supplier Part Number 1: 1428-1051-ND
footprint MPU-9250
pins: 1 Vcc, 2 GND, 3 SCL, 4 SDA, 5 EDA, 6 ECL, 7 AD0, 8 INT, 9 NCS, 10 FSYNC

## MPZ2012S601AT000
designator FB?, comment 600R
FERRITE BEAD 600 OHM 100MHz 0805 1LN; Manufacturer: TDK Corporation; Manufacturer Part Number: MPZ2012S601AT000; Filter Type: Power Line; Impedance @ Frequency: 600 Ohm @ 100MHz; Current Rating (Max): 2A; DC Resistance (DCR) (Max): 100 mOhm; Supplier 1: Digi-Key; RoHS: RoHS Compliant; Category: Filters; Stock 1: 569494; Pricing 1: 1=0.11, 10=0.091, 25=0.0704, 50=0.0584, 100=0.0503, 250=0.04028, 500=0.03624, 1000=0.0302 (USD); Packaging: Cut Tape (CT); Part Status: Active; Ratings: -; Operating Temperature: -55°C ~ 125°C; Package / Case: 0805 (2012 Metric); Mounting Type: Surface Mount; Height (Max): 0.041" (1.05mm); Size / Dimension: 0.079" L x 0.049" W (2.00mm x 1.25mm); ComponentLink1URL: https://product.tdk.com/info/en/catalog/datasheets/beads_commercial_power_mpz2012_en.pdf; ComponentLink1Description: https://product.tdk.com/info/en/catalog/datasheets/beads_commercial_power_mpz2012_en.pdf; Supplier Part Number 1: 445-2206-1-ND
footprint Cap_0805
pins: 1, 2

## MS0850500F130P1A
designator SWC?, comment MicroSwitch
Switch Micro Series SPDT PCB Mini Snap Action Switch; Manufacturer: E-Switch; Manufacturer Part Number: MS0850500F130P1A; Mechanical Life: 1000000Cycles; Operating Force: 1.3N; Electrical Life: 50000Cycles; Switch Function: On-Mom; Current Rating: 5A; Voltage Rating (AC): 125V; Pretravel: 0.043inch; Operating Position: 0.335inch; Supplier 1: Digi-Key; Stock 1: 227; Pricing 1: 1 = 1,14000, 10 = 1,08000, 25 = 1,03680, 50 = 0,99360, 100 = 0,95040, 250 = 0,75600, 500 = 0,69120, 1000 = 0,66960, 5000 = 0,60480 (USD); RoHS: Yes; Mount: Through Hole; Min Operating Temperature: -25°C; Max Operating Temperature: 85°C; Throw Configuration: SPDT; Termination: PC Pin; Package Quantity: 1; Contact Current Rating: 5A; Packaging: Bulk; Lead Free: Lead Free; ComponentLink1URL: https://datasheet.ciiva.com/2897/q970000e-2897738.pdf?src-supplier=Digi-Key; ComponentLink1Description: https://datasheet.ciiva.com/2897/q970000e-2897738.pdf?src-supplier=Digi-Key; ComponentLink2URL: https://datasheet.ciiva.com/16464/q970000e-16464059.pdf?src-supplier=Future+Electronics; ComponentLink2Description: https://datasheet.ciiva.com/16464/q970000e-16464059.pdf?src-supplier=Future+Electronics; Supplier Part Number 1: EG5428-ND
footprint microSwitchCQC
footprint microSwitchCQC_v2
footprint mıcroswitchcqc_v3
pins: 1-COM COM, 2-NC NC, 3-NO NO
text: 1   3   2

## MSTBV2.5-6G5.08
designator J?
TERM BLOCK HDR 6POS VERT 5.08MM; Manufacturer 1: Phoenix Contact; Current Rating: 12A; Voltage Rating: 250V; Number of Positions: 6; Number of Levels: 1; Voltage: 300V; Voltage Rating (DC): 320V; Approvals: UL,CSA; Supplier 1: Digi-Key; Manufacturer Part Number 1: MSTBV2.5-6G5.08; Description 1: TERM BLOCK HDR 6POS VERT 5.08MM; Stock 1: 236; Pricing 1: 1=1.93, 10=1.848, 50=1.7976, 100=1.68, 250=1.5456, 500=1.428, 1000=1.3608, 2500=1.2768 (USD); Mount: Through Hole; Weight: 5.43219oz; Color: Grey,Green; Contact Plating: Tin; Contact Material: Copper,Tin; Housing Material: Polybutylene; Housing Color: Green; Package Quantity: 50; Packaging: Bulk; Termination: Solder; Number of Positions Per Level: 6; Current: 12A; Number of Rows: 1; Max Current Rating: 12A; Number of Contacts: 6; Orientation: Straight; Number of Poles: 6; Length: 30.48mm; Height: 15.9mm; Pitch: 5.08mm; Width: 30.48mm; Depth: 8.6mm; Flammability Rating: UL94 V-0; Lead Free: Lead Free; ComponentLink1URL: https://media.digikey.com/pdf/Data%20Sheets/Phoenix%20Contact%20PDFs/1758050.pdf?src-supplier=Digi-Key; ComponentLink1Description: https://media.digikey.com/pdf/Data%20Sheets/Phoenix%20Contact%20PDFs/1758050.pdf?src-supplier=Digi-Key; ComponentLink2URL: https://produktinfo.conrad.com/datenblaetter/725000-749999/743656-da-01-en-GRUNDGEHAEUSE__MSTBV_2_5__6_G_5_08.pdf?src-supplier=Conrad; ComponentLink2Description: https://produktinfo.conrad.com/datenblaetter/725000-749999/743656-da-01-en-GRUNDGEHAEUSE__MSTBV_2_5__6_G_5_08.pdf?src-supplier=Conrad; Supplier Part Number 1: 277-1132-ND
footprint SOCKET_5.08_1X6_180
pins: 1, 2, 3, 4, 5, 6

## MT41J128M16HA-15E:DTR
designator U?, comment MT41J128M16HA-15E:D TR  Supplier Part Number 1: 557-1493-6-ND
IC DRAM 2G PARALLEL 96FBGA; Manufacturer: Micron Technology; Address Bus Width: 17b; Operating Supply Voltage: 1.5V; Max Supply Voltage: 1.575V; Min Supply Voltage: 1.425V; Nominal Supply Current: 255mA; Memory Type: RAM,DDR3 SDRAM; Frequency: 667MHz; Density: 2Gb; Max Frequency: 1.333GHz; Supplier 1: Digi-Key; Manufacturer Part Number: MT41J128M16HA-15E:DTR; Stock 1: 0; Case/Package: TFBGA; Number of Pins: 96; Min Operating Temperature: 0°C; Max Operating Temperature: 95°C; Packaging: Tape and Reel; Package Quantity: 1; Interface: Parallel; ComponentLink1URL: https://media.digikey.com/pdf/Data%20Sheets/Micron%20Technology%20Inc%20PDFs/MT41J512M4_256M8_128M16_Rev_P.pdf?src-supplier=Digi-Key; ComponentLink1Description: https://media.digikey.com/pdf/Data%20Sheets/Micron%20Technology%20Inc%20PDFs/MT41J512M4_256M8_128M16_Rev_P.pdf?src-supplier=Digi-Key

## MUR860G
designator D?
DIODE GEN PURP 600V 8A TO220AC; Manufacturer 1: ON Semiconductor; Max Reverse Current: 10uA; Max Surge Current: 100A; Forward Voltage: 1.5V; Recovery Time: 60ns; Element Configuration: Single; Polarity: Standard; Reverse Recovery Time-Max: 50ns; Supplier 1: Digi-Key; Manufacturer Part Number 1: MUR860G; Stock 1: 0; Pricing 1: 1=1,18000, 10=1,05600, 100=0,82310, 500=0,67992, 1000=0,59080 (USD); RoHS: Yes; Case/Package: TO-220-2; Number of Pins: 2; Weight: 0.01lb; Contact Plating: Tin,Matte; Min Operating Temperature: -65°C; Max Operating Temperature: 175°C; Forward Current: 8A; Package Quantity: 50; Packaging: Rail/Tube; Average Rectified Current: 8A; Reverse Recovery Time: 60ns; Max Repetitive Reverse Voltage (Vrrm): 600V; Peak Non-Repetitive Surge Current: 100A; Max Forward Surge Current (Ifsm): 100A; Voltage Rating (DC): 600V; Current Rating: 8A; Output Current: 8A; Max Reverse Voltage (DC): 600V; Reverse Voltage: 600V; Series: SWITCHMODE™; Length: 10.29mm; Width: 4.82mm; Height: 9.27mm; Radiation Hardening: No; REACH SVHC: No SVHC; Lead Free: Lead Free; RoHS Compliant: Yes; ComponentLink1URL: https://datasheet.ciiva.com/14169/zamur840-860-data-e-14169160.pdf?src-supplier=Distrelec; ComponentLink1Description: https://datasheet.ciiva.com/14169/zamur840-860-data-e-14169160.pdf?src-supplier=Distrelec; ComponentLink2URL: https://datasheet.ciiva.com/15144/getdatasheetpartid-103084-15144871.pdf?src-supplier=Verical; ComponentLink2Description: https://datasheet.ciiva.com/15144/getdatasheetpartid-103084-15144871.pdf?src-supplier=Verical; ComponentLink3URL: https://datasheet.ciiva.com/14557/70099562-14557677.pdf?src-supplier=Allied+Electronics; ComponentLink3Description: https://datasheet.ciiva.com/14557/70099562-14557677.pdf?src-supplier=Allied+Electronics; ComponentLink4URL: https://datasheet.ciiva.com/8299/mur820-d-8299771.pdf?src-supplier=Avnet; ComponentLink4Description: https://datasheet.ciiva.com/8299/mur820-d-8299771.pdf?src-supplier=Avnet; ComponentLink5URL: https://datasheet.ciiva.com/16210/mur820-d-16210191.pdf?src-supplier=Future+Electronics; ComponentLink5Description: https://datasheet.ciiva.com/16210/mur820-d-16210191.pdf?src-supplier=Future+Electronics; ComponentLink6URL: https://datasheet.ciiva.com/916/mur820-d-916462.pdf?src-supplier=Digi-Key; ComponentLink6Description: https://datasheet.ciiva.com/916/mur820-d-916462.pdf?src-supplier=Digi-Key; Supplier Part Number 1: MUR860GOS-ND
footprint TO-220AC-2
pins: 1 Katot, 2 Anot

## NC7SZ08P5X
designator U?
IC GATE AND 1CH 2-INP SC70-5; Manufacturer: ON Semiconductor / Fairchild; Min Supply Voltage: 1.65V; Max Supply Voltage: 5.5V; Propagation Delay: 11ns; Number of Outputs: 1; Number of Inputs: 2; Quiescent Current: 2uA; High Level Output Current: -32mA; Low Level Output Current: 32mA; Turn-On Delay Time: 5.2ns; Supplier 1: Digi-Key; Manufacturer Part Number: NC7SZ08P5X; Stock 1: 151981; Pricing 1: 1=0.36, 10=0.269, 100=0.1526, 500=0.10104, 1000=0.07746 (USD); Mount: Surface Mount; Case/Package: SC; Number of Pins: 5; Weight: 23g; Contact Plating: Tin,Matte; Min Operating Temperature: -40°C; Max Operating Temperature: 85°C; Logic Function: AND; Packaging: Tape and Reel; Package Quantity: 1; Number of Gates: 1; Number of Circuits: 1; Number of Elements: 1; Output Current: 32mA; Number of Channels: 2; Radiation Hardening: No; REACH SVHC: No SVHC; Lead Free: Lead Free; ComponentLink1URL: https://www.fairchildsemi.com/datasheets/NC/NC7SZ08.pdf?src-supplier=Avnet; ComponentLink1Description: https://www.fairchildsemi.com/datasheets/NC/NC7SZ08.pdf?src-supplier=Avnet; ComponentLink2URL: https://www.verical.com/server-webapp/html/getDatasheet?partID=138987&src-supplier=Verical; ComponentLink2Description: https://www.verical.com/server-webapp/html/getDatasheet?partID=138987&src-supplier=Verical; ComponentLink3URL: http://www.jameco.com/Jameco/Products/ProdDS/1016653.pdf?src-supplier=Jameco; ComponentLink3Description: http://www.jameco.com/Jameco/Products/ProdDS/1016653.pdf?src-supplier=Jameco; ComponentLink4URL: http://www.fairchildsemi.com/ds/NC/NC7SZ08.pdf?src-supplier=Future+Electronics; ComponentLink4Description: http://www.fairchildsemi.com/ds/NC/NC7SZ08.pdf?src-supplier=Future+Electronics; ComponentLink5URL: https://www.fairchildsemi.com/datasheets/NC/NC7SZ08.pdf?src-supplier=Digi-Key; ComponentLink5Description: https://www.fairchildsemi.com/datasheets/NC/NC7SZ08.pdf?src-supplier=Digi-Key; ComponentLink6URL: http://www.farnell.com/datasheets/715019.pdf?src-supplier=Element14; ComponentLink6Description: http://www.farnell.com/datasheets/715019.pdf?src-supplier=Element14; Supplier Part Number 1: NC7SZ08P5XDKR-ND
footprint SOT-353
pins: 1 A, 2 B, 3 GND, 4 Y, 5 Vcc

## NCV1117ST50T3G
designator U?
IC REG LINEAR 5V 1A SOT223; Manufacturer: ON Semiconductor; Dropout Voltage: 1.07V; Max Input Voltage: 20V; Number of Outputs: 1; Min Input Voltage: 6.5V; Input Bias Current: 6mA; Polarity: Positive; Quiescent Current: 10mA; Accuracy: 1%; Output Type: Fixed; Supplier 1: Digi-Key; Manufacturer Part Number: NCV1117ST50T3G; RoHS: Yes; Category: Voltage Regulators - Linear; Stock 1: 8677; Pricing 1: 1=0,71000, 10=0,62700, 25=0,58880, 100=0,48060, 250=0,44640, 500=0,37990, 1000=0,30392 (USD); Mount: Surface Mount; Case/Package: SOT-223; Contact Plating: Tin,Matte; Min Operating Temperature: -40°C; Max Operating Temperature: 125°C; Max Output Current: 1A; Output Voltage: 5V; Package Quantity: 1; Output Current: 1A; Packaging: Tape and Reel; Number of Regulators: 1; Min Current Limit: 1A; Min Output Voltage: 5V; Output Voltage Accuracy: 1%; Series: Automotive, AEC-Q100; Length: 6.7mm; Width: 3.7mm; Height: 1.69mm; Radiation Hardening: No; Lead Free: Lead Free; RoHS Compliant: Yes; ComponentLink1URL: https://datasheet.ciiva.com/2043/ncp1117-d-2043175.pdf?src-supplier=Digi-Key; ComponentLink1Description: https://datasheet.ciiva.com/2043/ncp1117-d-2043175.pdf?src-supplier=Digi-Key; ComponentLink2URL: https://datasheet.ciiva.com/2043/ncp1117-d-2043176.pdf?src-supplier=Digi-Key; ComponentLink2Description: https://datasheet.ciiva.com/2043/ncp1117-d-2043176.pdf?src-supplier=Digi-Key; ComponentLink3URL: https://datasheet.ciiva.com/2043/ncp1117-d-2043177.pdf?src-supplier=Digi-Key; ComponentLink3Description: https://datasheet.ciiva.com/2043/ncp1117-d-2043177.pdf?src-supplier=Digi-Key; Supplier Part Number 1: NCV1117ST50T3GOSCT-ND
footprint SOT-223
pins: 1 GND (power), 2,4 Vout (out), 3 Vin (in)

## Net Tie 1
designator NT?  (net tie, no BOM)
footprint NET_TIE_1
footprint NET_TIE_ANTENNA_1.7
pins: 1, 2

## NHD-0216K1Z-FL-YBW
designator LCD?
LCD MOD CHAR 2X16 Y/G TRANSFL; Manufacturer 1: Newhaven Display; Backlight Type: LED; Operating Supply Voltage: 5V; Interface: Parallel; Number of Characters: 32; Background Color: Green; Contrast Ratio: 2:1; Supplier 1: Digi-Key; Manufacturer Part Number 1: NHD-0216K1Z-FL-YBW; Description 1: LCD MOD CHAR 2X16 Y/G TRANSFL; Stock 1: 5140; Pricing 1: 1=10.5, 5=9.87, 10=9.24, 50=8.715, 100=8.295, 250=7.87504, 500=7.56004 (USD); Mount: Screw; Number of Pins: 16; Min Operating Temperature: -20°C; Max Operating Temperature: 70°C; Package Quantity: 50; Packaging: Bulk; ComponentLink1URL: http://www.newhavendisplay.com/specs/NHD-0216K1Z-FL-YBW.pdf?src-supplier=Digi-Key; ComponentLink1Description: http://www.newhavendisplay.com/specs/NHD-0216K1Z-FL-YBW.pdf?src-supplier=Digi-Key; ComponentLink2URL: http://www.jameco.com/Jameco/Products/ProdDS/2118580.pdf?src-supplier=Jameco; ComponentLink2Description: http://www.jameco.com/Jameco/Products/ProdDS/2118580.pdf?src-supplier=Jameco; ComponentLink3URL: http://www.onlinecomponents.com/productFiles/mf-NHD/NHD-0216K1Z-FL-YBW.pdf?src-supplier=Onlinecomponents.com; ComponentLink3Description: http://www.onlinecomponents.com/productFiles/mf-NHD/NHD-0216K1Z-FL-YBW.pdf?src-supplier=Onlinecomponents.com; ComponentLink4URL: http://www.mouser.com/ds/2/291/NHD-0216K1Z-FL-YBW-42789.pdf?src-supplier=Mouser; ComponentLink4Description: http://www.mouser.com/ds/2/291/NHD-0216K1Z-FL-YBW-42789.pdf?src-supplier=Mouser; Supplier Part Number 1: NHD-0216K1Z-FL-YBW-ND
footprint LCD_PIN_16_100mil
pins: 1 GND, 2 5Vdc, 3 Contrast, 4 RS, 5 R/W, 6 E, 7 DB0, 8 DB1, 9 DB2, 10 DB3, 11 DB4, 12 DB5, 13 DB6, 14 DB7, 15 LED+, 16 LED-